# EAGLE library part 68000-406HLF (library 68000-406HLF)
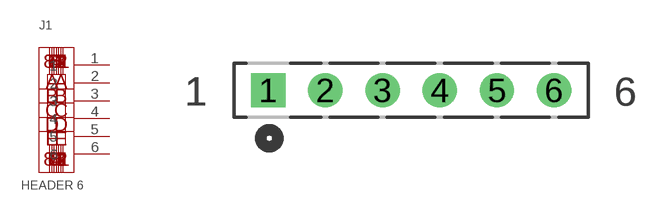
[diagram p0: symbol with the pads of 68000-406HLF; footprint 68000-406HLF]

Designator prefix -

## 68000-406HLF  [68000-406HLF]
1  1
2  2
3  3
4  4
5  5
6  6

## Footprint 68000-406HLF (pad centres in mm)
drill 1.016 square: 1 -17.78,1.27
drill 1.016: 2 -15.24,1.27; 3 -12.7,1.27; 4 -10.16,1.27; 5 -7.62,1.27; 6 -5.08,1.27